# Altium schematic symbol library 智能车元件.SchLib: 68 symbols
Pins are listed as number, name and electrical type; pins without a type are passive.

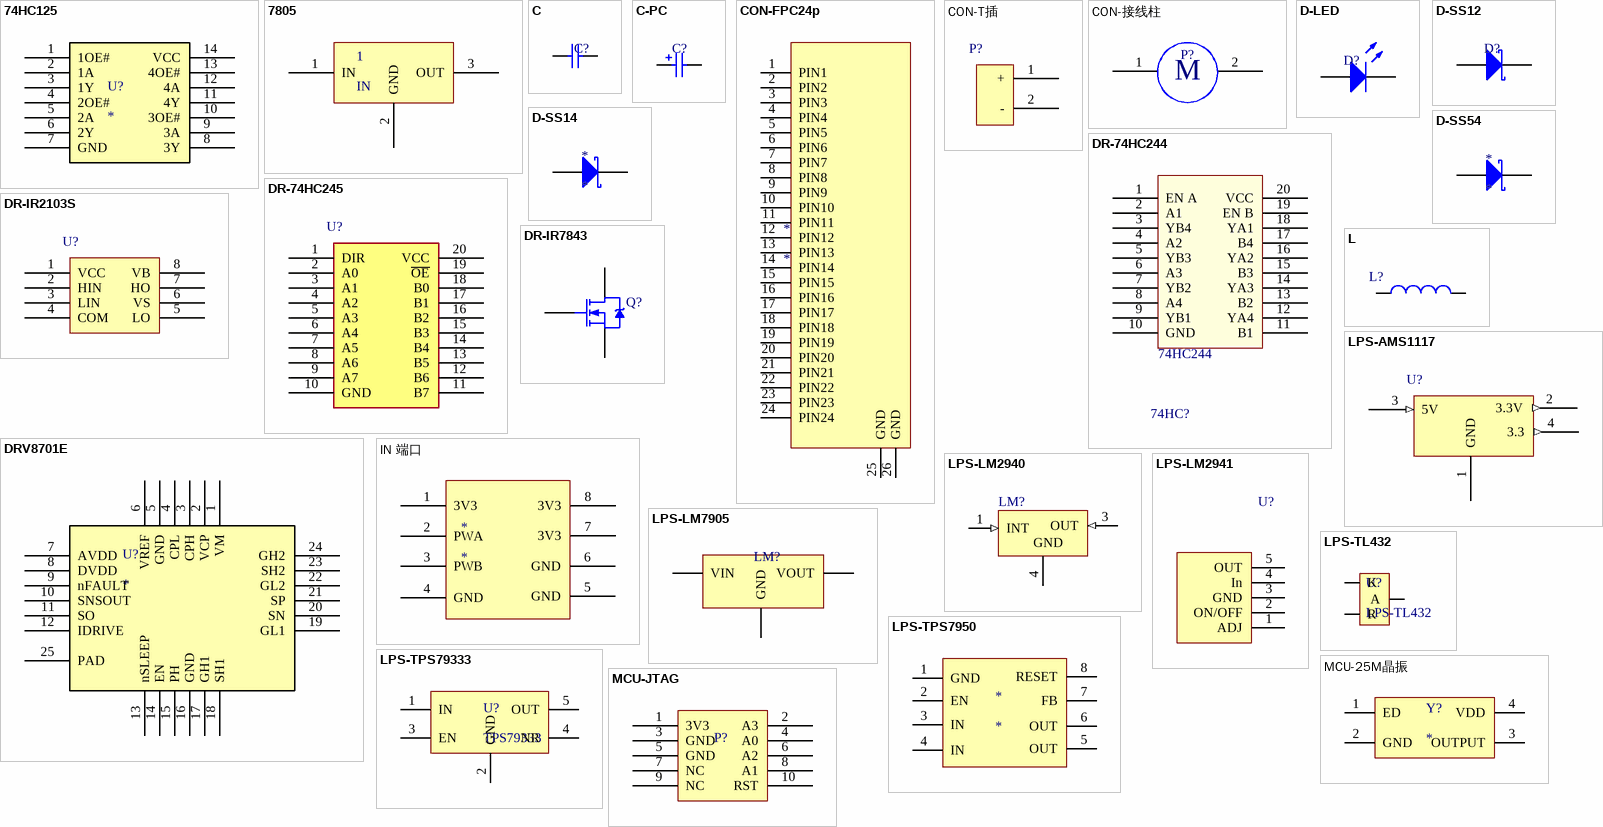
[diagram p0: symbols 74HC125 to MCU-JTAG]

## 74HC125
designator U?
pins: 1 1OE#, 2 1A, 3 1Y, 4 2OE#, 5 2A, 6 2Y, 7 GND, 8 3Y, 9 3A, 10 3OE#, 11 4Y, 12 4A, 13 4OE#, 14 VCC

## 7805
designator 1, comment IN
pins: 1 IN, 2 GND, 3 OUT

## C
designator C?  (value not drawn)
Published: 8-Jun-2000; LatestRevisionDate: 17-Jul-2002; LatestRevisionNote: Re-released for DXP Platform.; PackageReference: RAD-0.3; Publisher: Altium Limited; PackageDescription: Radial Cap, Thru-Hole; 2 Leads; 0.3 in Pin Spacing
footprint 0805
footprint 0603
footprint 0402 (Chip Capacitor, Body 1.0x0.5mm, IPC High Density)
pins: 1, 2

## C-PC
designator C?, comment C  (value not drawn)
footprint TANT-A
footprint TANT-C
footprint TANT-D
footprint TANT-B
footprint 铝片电容-F10
footprint 铝片电容-F8
footprint 铝片电容-F6.3
pins: 1, 2

## CON-FPC24p
designator *
footprint FPC_24P_0.5MM
footprint FPC_24P_H0.5
pins: 1 PIN1, 2 PIN2, 3 PIN3, 4 PIN4, 5 PIN5, 6 PIN6, 7 PIN7, 8 PIN8, 9 PIN9, 10 PIN10, 11 PIN11, 12 PIN12, 13 PIN13, 14 PIN14, 15 PIN15, 16 PIN16, 17 PIN17, 18 PIN18, 19 PIN19, 20 PIN20, 21 PIN21, 22 PIN22, 23 PIN23, 24 PIN24, 25 GND, 26 GND

## CON-T插
designator P?, comment P  (value not drawn)
footprint T插1
footprint T插2
footprint T插3
pins: 1 +, 2 -

## CON-接线柱
designator P?, comment P  (value not drawn)
footprint 接线柱
pins: 1, 2
text: M

## D-LED
designator D?  (value not drawn)
footprint 0805
footprint 0402 (Chip Capacitor, Body 1.0x0.5mm, IPC High Density)
footprint 0603
pins: 1 A, 2 K

## D-SS12
designator D?  (value not drawn)
footprint SMA
footprint SOD-323 (Surface mounted, 2 pin package)
pins: 1 A, 2 K

## D-SS14
designator *
footprint SMA
footprint SOD-323 (Surface mounted, 2 pin package)
pins: 1 A, 2 K

## D-SS54
designator *
footprint SMA
pins: 1 A, 2 K

## DR-74HC244
designator 74HC?  (value not drawn)
footprint SOP-20
footprint TSSOP-20
pins: 1 EN A, 2 A1, 3 YB4, 4 A2, 5 YB3, 6 A3, 7 YB2, 8 A4, 9 YB1, 10 GND, 11 B1, 12 YA4, 13 B2, 14 YA3, 15 B3, 16 YA2, 17 B4, 18 YA1, 19 EN B, 20 VCC
text: 74HC244

## DR-74HC245
designator U?, comment U  (value not drawn)
footprint SOP-20
pins: 1 DIR, 2 A0, 3 A1, 4 A2, 5 A3, 6 A4, 7 A5, 8 A6, 9 A7, 10 GND, 11 B7, 12 B6, 13 B5, 14 B4, 15 B3, 16 B2, 17 B1, 18 B0, 19 ~{OE}, 20 VCC

## DR-IR2103S
designator U?, comment IR2103  (value not drawn)
footprint SOIC-8
pins: 1 VCC (power), 2 HIN, 3 LIN, 4 COM, 5 LO, 6 VS, 7 HO, 8 VB

## DR-IR7843
designator Q?  (value not drawn)
Note: Pin 2 is electrically connected to pin 4.; Published: 8-Jun-2000; LatestRevisionDate: 17-Jul-2002; LatestRevisionNote: Re-released for DXP Platform.; DatasheetDocument: PD-9.814; PackageReference: TO-220AB; Publisher: Altium Limited; Code_JEDEC: TO-220-AB; ComponentLink1Description: Manufacturer Link; ComponentLink1URL: http://www.irf.com/
footprint TO-252
pins: 1 G, 2 D, 3 S

## DRV8701E
designator U?
pins: 1 VM, 2 VCP, 3 CPH, 4 CPL, 5 GND, 6 VREF, 7 AVDD, 8 DVDD, 9 nFAULT, 10 SNSOUT, 11 SO, 12 IDRIVE, 13 nSLEEP, 14 EN, 15 PH, 16 GND, 17 GH1, 18 SH1, 19 GL1, 20 SN, 21 SP, 22 GL2, 23 SH2, 24 GH2, 25 PAD

## IN 端口
designator *
pins: 1 3V3, 2 PWA, 3 PWB, 4 GND, 5 GND, 6 GND, 7 3V3, 8 3V3

## L
designator L?  (value not drawn)
footprint L-7*7
footprint L-10*10
footprint L-12*12
pins: 1, 2

## LPS-AMS1117
designator U?  (value not drawn)
footprint SOT-223
pins: 1 GND (power), 2 3.3V (out), 3 5V (in), 4 3.3 (out)

## LPS-LM2940
designator LM?  (value not drawn)
Published: 24-Aug-2001; LatestRevisionDate: 17-Jul-2002; LatestRevisionNote: Re-released for DXP Platform.; DatasheetVersion: Nov-1999; PackageReference: TO-263; Publisher: Altium Limited; PackageDescription: D2-PAK/TO-263-AB; 3 Leads (1 Cropped); Body 15.9 (inc. leads) x 10.4 mm (LxW max); ComponentLink1Description: Manufacturer Link; ComponentLink1URL: http://www.st.com/; ComponentLink2Description: Datasheet; ComponentLink2URL: http://www.st.com/stonline/products/literature/ds/2144/l7805ab.pdf
footprint SOT-223
footprint TO-263-3
pins: 1 INT (in), 3 OUT (in), 4 GND (power)

## LPS-LM2941
designator U?  (value not drawn)
footprint TO-263-5
pins: 1 ADJ, 2 ON/OFF, 3 GND, 4 In, 5 OUT

## LPS-LM7905
designator LM?  (value not drawn)
footprint TO-220-3 (TO, Thru-Hole, Vertical, Heatsink Mounted; 3 In-Line Leads; Pitch 2.54 mm; Pin sequence 1, 3, 2)
pins: 1 VIN, 2 VOUT, 3 GND

## LPS-TL432
designator U?
参考电源
footprint SOT-23-3
pins: 1 K, 2 R, 3 A

## LPS-TPS7950
designator *
footprint SOIC-8
pins: 1 GND, 2 EN, 3 IN, 4 IN, 5 OUT, 6 OUT, 7 FB, 8 RESET

## LPS-TPS79333
designator U?, comment TPS79333
footprint SOT-23-5
pins: 1 IN, 2 GND, 3 EN, 4 NR, 5 OUT

## MCU-25M晶振
designator Y?
footprint SMD3225
pins: 1 ED, 2 GND, 3 OUTPUT, 4 VDD

## MCU-JTAG
designator P?  (value not drawn)
footprint JTAG (Connector; Header; 5x2 Position)
pins: 1 3V3, 2 A3, 3 GND, 4 A0, 5 GND, 6 A2, 7 NC, 8 A1, 9 NC, 10 RST

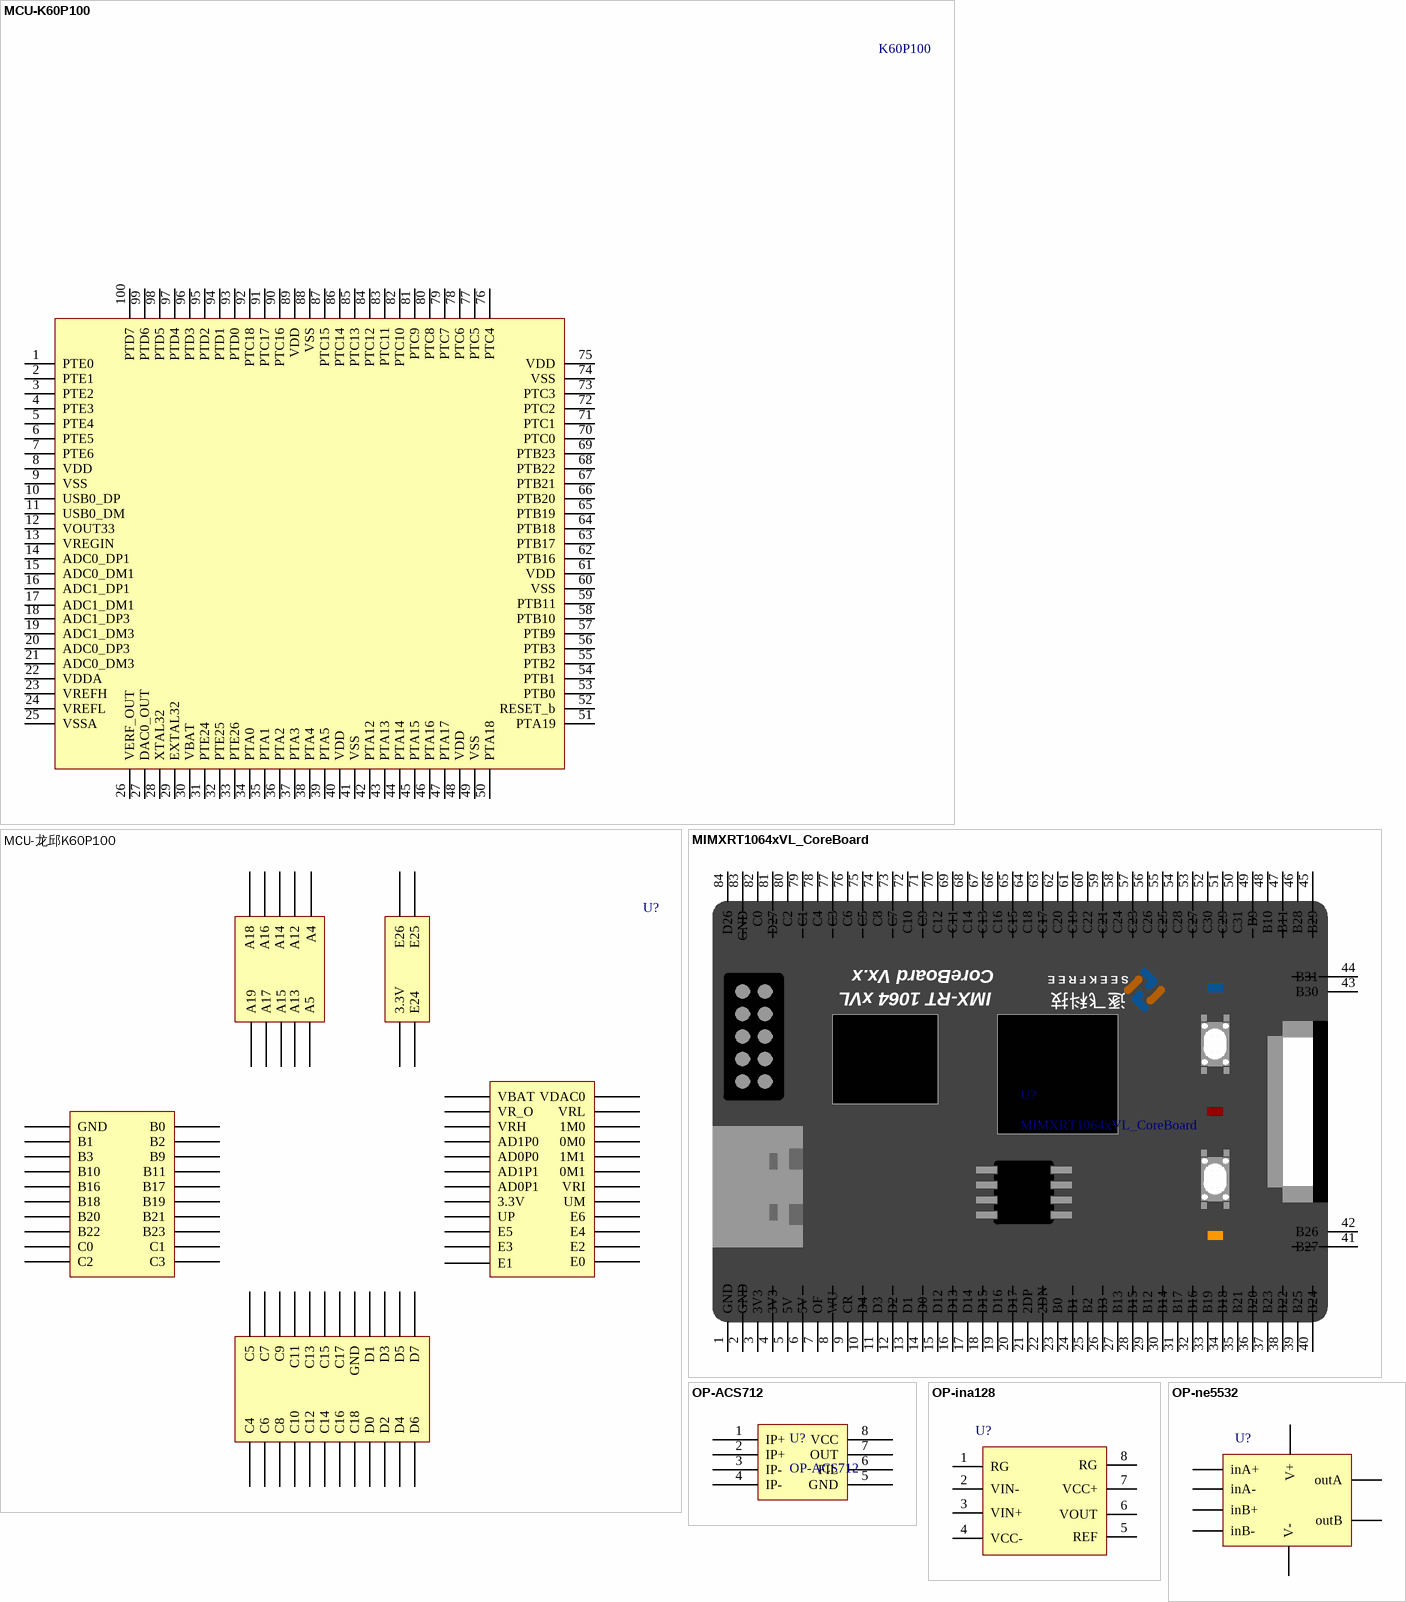
[diagram p1: symbols MCU-K60P100 to OP-ne5532]

## MCU-K60P100
designator K60P100  (value not drawn)
footprint K60P100
pins: 1 PTE0, 2 PTE1, 3 PTE2, 4 PTE3, 5 PTE4, 6 PTE5, 7 PTE6, 8 VDD, 9 VSS, 10 USB0_DP, 11 USB0_DM, 12 VOUT33, 13 VREGIN, 14 ADC0_DP1, 15 ADC0_DM1, 16 ADC1_DP1, 17 ADC1_DM1, 18 ADC1_DP3, 19 ADC1_DM3, 20 ADC0_DP3, 21 ADC0_DM3, 22 VDDA, 23 VREFH, 24 VREFL, 25 VSSA, 26 VERF_OUT, 27 DAC0_OUT, 28 XTAL32, 29 EXTAL32, 30 VBAT, 31 PTE24, 32 PTE25, 33 PTE26, 34 PTA0, 35 PTA1, 36 PTA2, 37 PTA3, 38 PTA4, 39 PTA5, 40 VDD, 41 VSS, 42 PTA12, 43 PTA13, 44 PTA14, 45 PTA15, 46 PTA16, 47 PTA17, 48 VDD, 49 VSS, 50 PTA18, 51 PTA19, 52 RESET_b, 53 PTB0, 54 PTB1, 55 PTB2, 56 PTB3, 57 PTB9, 58 PTB10, 59 PTB11, 60 VSS, 61 VDD, 62 PTB16, 63 PTB17, 64 PTB18, 65 PTB19, 66 PTB20, 67 PTB21, 68 PTB22, 69 PTB23, 70 PTC0, 71 PTC1, 72 PTC2, 73 PTC3, 74 VSS, 75 VDD, 76 PTC4, 77 PTC5, 78 PTC6, 79 PTC7, 80 PTC8, 81 PTC9, 82 PTC10, 83 PTC11, 84 PTC12, 85 PTC13, 86 PTC14, 87 PTC15, 88 VSS, 89 VDD, 90 PTC16, 91 PTC17, 92 PTC18, 93 PTD0, 94 PTD1, 95 PTD2, 96 PTD3, 97 PTD4, 98 PTD5, 99 PTD6, 100 PTD7

## MCU-龙邱K60P100
designator U?  (value not drawn)
footprint 龙邱K60100P
pins: 1 E0, 2 E1, 3 E2, 4 E3, 5 E4, 6 E5, 7 E6, 8 UP, 9 UM, 10 3.3V, 11 VRI, 12 AD0P1, 13 0M1, 14 AD1P1, 15 1M1, 16 AD0P0, 17 0M0, 18 AD1P0, 19 1M0, 20 VRH, 21 VRL, 22 VR_O, 23 VDAC0, 24 VBAT, 25 E24, 26 E25, 27 3.3V, 28 E26, 29 A5, 30 A4, 31 A13, 32 A12, 33 A15, 34 A14, 35 A17, 36 A16, 37 A19, 38 A18, 39 GND, 40 B0, 41 B1, 42 B2, 43 B3, 44 B9, 45 B10, 46 B11, 47 B16, 48 B17, 49 B18, 50 B19, 51 B20, 52 B21, 53 B22, 54 B23, 55 C0, 56 C1, 57 C2, 58 C3, 59 C4, 60 C5, 61 C6, 62 C7, 63 C8, 64 C9, 65 C10, 66 C11, 67 C12, 68 C13, 69 C14, 70 C15, 71 C16, 72 C17, 73 C18, 74 GND, 75 D0, 76 D1, 77 D2, 78 D3, 79 D4, 80 D5, 81 D6, 82 D7
2 alternate drawings of the same symbol

## MIMXRT1064xVL_CoreBoard
designator U?
逐飞科技i.MX RT1064核心板整体原理，可直接使用
footprint MIMXRT1064xVL_CoreBoard (逐飞科技i.MX RT1064核心板整体封装，可直接使用)
pins: 1 GND, 2 GND, 3 3V3, 4 3V3, 5 5V, 6 5V, 7 OF, 8 WU, 9 CR, 10 D4, 11 D3, 12 D2, 13 D1, 14 D0, 15 D12, 16 D13, 17 D14, 18 D15, 19 D16, 20 D17, 21 2DP, 22 2DN, 23 B0, 24 B1, 25 B2, 26 B3, 27 B13, 28 B15, 29 B12, 30 B14, 31 B17, 32 B16, 33 B19, 34 B18, 35 B21, 36 B20, 37 B23, 38 B22, 39 B25, 40 B24, 41 B27, 42 B26, 43 B30, 44 B31, 45 B29, 46 B28, 47 B11, 48 B10, 49 B9, 50 C31, 51 C29, 52 C30, 53 C27, 54 C28, 55 C25, 56 C26, 57 C23, 58 C24, 59 C21, 60 C22, 61 C19, 62 C20, 63 C17, 64 C18, 65 C15, 66 C16, 67 C13, 68 C14, 69 C11, 70 C12, 71 C9, 72 C10, 73 C7, 74 C8, 75 C5, 76 C6, 77 C3, 78 C4, 79 C1, 80 C2, 81 D27, 82 C0, 83 GND, 84 D26
text: CoreBoard Vx.x; S E E K F R E E; IMX-RT 1064 xVL; 逐飞科技

## OP-ACS712
designator U?
电流传感器霍尔芯片
footprint SOIC-8
pins: 1 IP+, 2 IP+, 3 IP-, 4 IP-, 5 GND, 6 FIL, 7 OUT, 8 VCC

## OP-ina128
designator U?  (value not drawn)
footprint SOIC-8
pins: 1 RG, 2 VIN-, 3 VIN+, 4 VCC-, 5 REF, 6 VOUT, 7 VCC+, 8 RG

## OP-ne5532
designator U?  (value not drawn)
footprint SOIC-8
pins: 1 outA, 2 inA-, 3 inA+, 4 V-, 5 inB+, 6 inB-, 7 outB, 8 V+

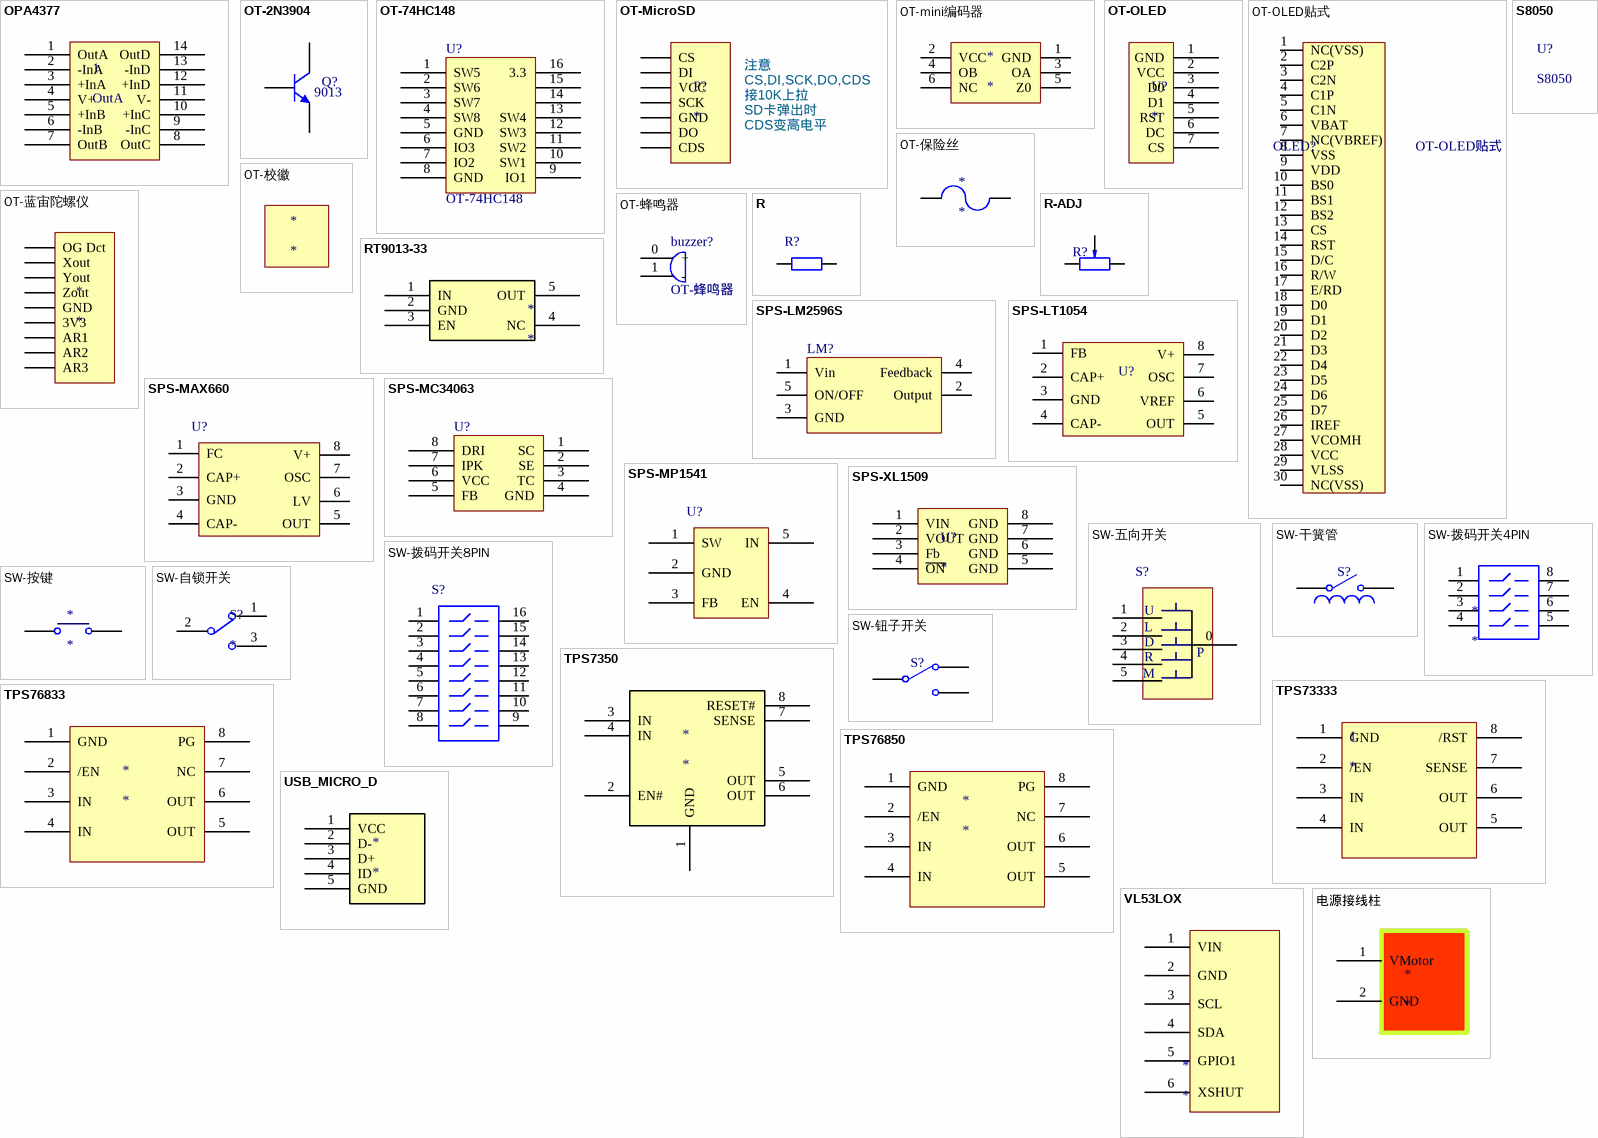
[diagram p2: symbols OPA4377 to 电源接线柱]

## OPA4377
designator 1, comment OutA
pins: 1 OutA, 2 -InA, 3 +InA, 4 V+, 5 +InB, 6 -InB, 7 OutB, 8 OutC, 9 -InC, 10 +InC, 11 V-, 12 +InD, 13 -InD, 14 OutD

## OT-2N3904
designator Q?, comment 9013
Published: 8-Jun-2000; LatestRevisionDate: 15-Jan-2003; LatestRevisionNote: PCB Footprint 'BCY-W3/D4.7' replaced; DatasheetVersion: 1997; PackageVersion: Sep-1998; PackageReference: TO-92A; Publisher: Altium Limited; Code_JEDEC: TO-92A; ComponentLink1Description: Manufacturer Link; ComponentLink1URL: http://www.fairchildsemi.com/; ComponentLink2Description: Datasheet; ComponentLink2URL: http://www.fairchildsemi.com/ds/2N%2F2N3904.pdf
footprint 三极管（插式）
pins: 1 E, 2 B, 3 C

## OT-74HC148
designator U?
footprint SOIC-16
footprint Model Name (Footprint not found)
pins: 1 SW5, 2 SW6, 3 SW7, 4 SW8, 5 GND, 6 IO3, 7 IO2, 8 GND, 9 IO1, 10 SW1, 11 SW2, 12 SW3, 13 SW4, 14, 15, 16 3.3

## OT-MicroSD
designator P?
footprint MicroSD
pins: 2 CS, 3 DI, 4 VCC, 5 SCK, 6 GND, 7 DO, 9 CDS
text: 注意; CS,DI,SCK,DO,CDS; 接10K上拉; SD卡弹出时; CDS变高电平

## OT-mini编码器
designator *
footprint mini编码器
pins: 1 GND, 2 VCC, 3 OA, 4 OB, 5 Z0, 6 NC

## OT-OLED
designator U?
footprint OLED (蓝宙（0.96寸）)
pins: 1 GND, 2 VCC, 3 D0, 4 D1, 5 RST, 6 DC, 7 CS

## OT-OLED贴式
designator OLED?
128x64显示屏
footprint OLED_0.96
pins: 1 NC(VSS), 2 C2P, 3 C2N, 4 C1P, 5 C1N, 6 VBAT, 7 NC(VBREF), 8 VSS, 9 VDD, 10 BS0, 11 BS1, 12 BS2, 13 CS, 14 RST, 15 D/C, 16 R/W, 17 E/RD, 18 D0, 19 D1, 20 D2, 21 D3, 22 D4, 23 D5, 24 D6, 25 D7, 26 IREF, 27 VCOMH, 28 VCC, 29 VLSS, 30 NC(VSS)

## OT-保险丝
designator *
footprint 0805
footprint 2512
pins: 1, 2

## OT-校徽
designator *
footprint 校徽

## OT-蓝宙陀螺仪
designator *
footprint 蓝宙陀螺仪 (Connector; Header; 9 Position)
pins: 1 OG Dct, 2 Xout, 3 Yout, 4 Zout, 5 GND, 6 3V3, 7 AR1, 8 AR2, 9 AR3

## OT-蜂鸣器
designator buzzer?
footprint 蜂鸣器10*10
pins: 0 +, 1 -

## R
designator R?  (value not drawn)
footprint 0805
footprint 0603
footprint 0402 (Chip Capacitor, Body 1.0x0.5mm, IPC High Density)
pins: 1, 2

## R-ADJ
designator R?, comment R  (value not drawn)
footprint R-ADJ (3296-103w)
footprint R-Adj 1
pins: 1, 2, 3

## RT9013-33
designator *
pins: 1 IN, 2 GND, 3 EN, 4 NC, 5 OUT

## S8050
designator U?

## SPS-LM2596S
designator LM?  (value not drawn)
footprint TO-263-5
pins: 1 Vin, 2 Output, 3 GND, 4 Feedback, 5 ON/OFF

## SPS-LT1054
designator U?  (value not drawn)
footprint SOIC-8
pins: 1 FB, 2 CAP+, 3 GND, 4 CAP-, 5 OUT, 6 VREF, 7 OSC, 8 V+

## SPS-MAX660
designator U?  (value not drawn)
footprint SOIC-8
pins: 1 FC, 2 CAP+, 3 GND, 4 CAP-, 5 OUT, 6 LV, 7 OSC, 8 V+

## SPS-MC34063
designator U?  (value not drawn)
footprint SOIC-8
pins: 1 SC, 2 SE, 3 TC, 4 GND, 5 FB, 6 VCC, 7 IPK, 8 DRI

## SPS-MP1541
designator U?  (value not drawn)
footprint SOT-23-5
pins: 1 SW, 2 GND, 3 FB, 4 EN, 5 IN

## SPS-XL1509
designator U?
2A 150KHz 40V Buck DC to DC Converter
footprint SOIC-8
pins: 1 VIN, 2 VOUT, 3 Fb, 4 ~{ON}, 5 GND, 6 GND, 7 GND, 8 GND

## SW-五向开关
designator S?, comment S  (value not drawn)
footprint 大五向按钮
footprint 小五向开关
pins: 0 4, 1, 2 6, 3 7, 4 8, 5 9
text: U; L; D; R; P; M

## SW-干簧管
designator S?  (value not drawn)
footprint 干簧管
pins: 1, 2

## SW-拨码开关4PIN
designator *
footprint 拨码开关四位
pins: 1, 2, 3, 4, 5, 6, 7, 8

## SW-拨码开关8PIN
designator S?, comment S  (value not drawn)
footprint 拨码开关8位贴片
footprint 拨码开关8位 (DIP; 16 Leads; Row Spacing 7.62 mm; Pitch 2.54 mm)
pins: 1, 2, 3, 4, 5, 6, 7, 8, 9, 10, 11, 12, 13, 14, 15, 16

## SW-按键
designator *
footprint 按键
pins: 1, 2

## SW-自锁开关
designator S?
footprint 自锁开关8.5*8.5
footprint 自锁开关7*7
pins: 1, 2, 3

## SW-钮子开关
designator S?, comment SWITCH  (value not drawn)
footprint 纽子开关
pins: 1 COMMON, 2 NO, 3

## TPS7350
designator *
pins: 1 GND, 2 EN#, 3 IN, 4 IN, 5 OUT, 6 OUT, 7 SENSE, 8 RESET#

## TPS73333
designator 1
pins: 1 GND, 2 /EN, 3 IN, 4 IN, 5 OUT, 6 OUT, 7 SENSE, 8 /RST

## TPS76833
designator *
pins: 1 GND, 2 /EN, 3 IN, 4 IN, 5 OUT, 6 OUT, 7 NC, 8 PG

## TPS76850
designator *
pins: 1 GND, 2 /EN, 3 IN, 4 IN, 5 OUT, 6 OUT, 7 NC, 8 PG

## USB_MICRO_D
designator *
pins: 1 VCC, 2 D-, 3 D+, 4 ID, 5 GND

## VL53LOX
designator *
pins: 1 VIN, 2 GND, 3 SCL, 4 SDA, 5 GPIO1, 6 XSHUT

## 电源接线柱
designator *
footprint 接线柱
pins: 1 VMotor, 2 GND